# EAGLE library part LM318 (library TI)
Fast General-Purpose Operational Amplifier (Texas Instruments)
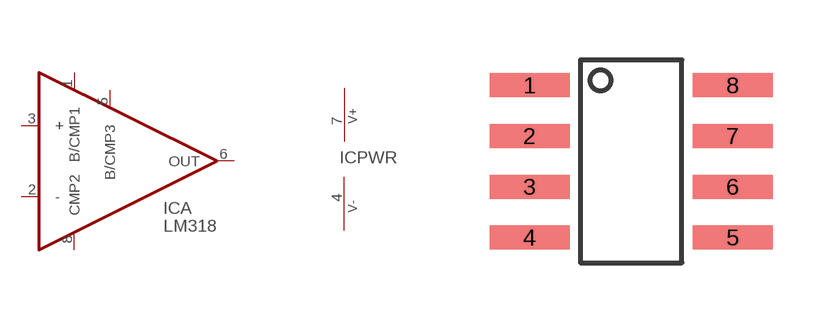
[diagram p3: symbol with the pads of SO8; footprint SO8]

Designator prefix IC; gates A=LM318 PWR=ICPWR-V+-V-

## LM318D  [SO8]
1  A:B/CMP1
2  A:-
3  A:+
4  PWR:V-  pwr
5  A:B/CMP3
6  A:OUT
7  PWR:V+  pwr
8  A:CMP2

## Footprint SO8 (pad centres in mm)
SO8 (Texas Instruments)
smd 2 x 0.6: 1 -2.54,1.905; 2 -2.54,0.635; 3 -2.54,-0.635; 4 -2.54,-1.905; 5 2.54,-1.905; 6 2.54,-0.635; 7 2.54,0.635; 8 2.54,1.905